# EAGLE library part LTC3822 (library PowerProducts)
No RSENSE, Low Input Voltage, Synchronous Step-Down DC/DC Controller
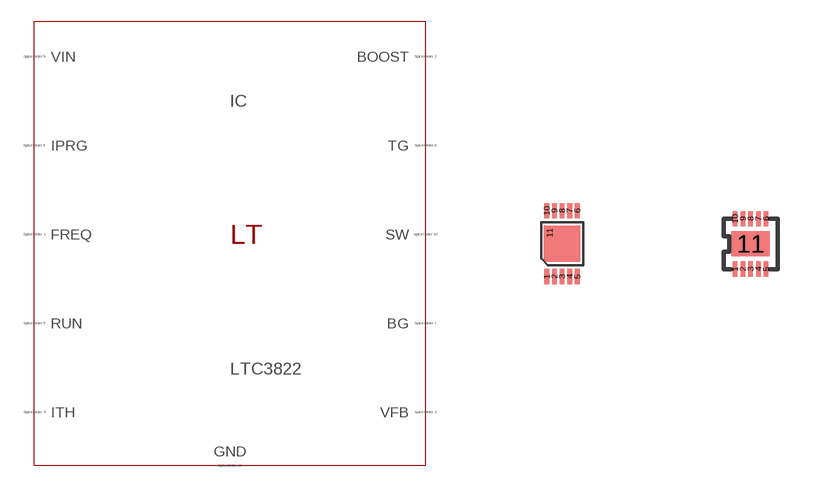
[diagram p349: symbol with the pads of MSOP10(MSE); footprints MSOP10(MSE), DFN10(DD)]

Designator prefix IC

## LTC3822MSE (SPICEMODEL: LTC3822.sub; SPICEPREFIX: X; VALUE2: LTC3822)  [MSOP10(MSE)]
1  BG  pas
2  TG  pas
3  BOOST  pas
4  VIN  pas
5  SW  pas
6  FREQ  pas
7  IPRG  pas
8  VFB  pas
9  ITH  pas
10  RUN  pas
11  GND  pas

## LTC3822 (SPICEMODEL: LTC3822.sub; SPICEPREFIX: X; VALUE2: LTC3822)  [DFN10(DD)]
Pads as for MSOP10(MSE)

## Footprint MSOP10(MSE) (pad centres in mm)
Package generated from: MSOP10(MSE).asc (!PADS-POWERPCB-V9.3-BASIC! DESIGN DATABASE ASCII FILE 1.0) with :import-pads-powerpcb-v5.ulp Version 1.0.1 at 04.10.2012 14:11:19
smd 0.116 x 0.387: 1 -0.381,-0.823; 2 -0.191,-0.823; 3 0,-0.823; 4 0.191,-0.823; 5 0.381,-0.823; 6 0.381,0.823; 7 0.191,0.823; 8 0,0.823; 9 -0.191,0.823; 10 -0.381,0.823
smd 0 x 0.097: 11 -0.31,0.271

## Footprint DFN10(DD) (pad centres in mm)
Package generated from: DFN10(DD).asc (!PADS-POWERPCB-V9.3-BASIC! DESIGN DATABASE ASCII FILE 1.0) with :import-pads-powerpcb-v5.ulp Version 1.0.1 at 04.10.2012 14:11:16
smd 0.116 x 0.387: 1 -0.387,-0.629; 2 -0.194,-0.629; 3 0,-0.629; 4 0.194,-0.629; 5 0.387,-0.629; 6 0.387,0.629; 7 0.194,0.629; 8 0,0.629; 9 -0.194,0.629; 10 -0.387,0.629
smd 0.968 x 0.629: 11 0,0